# Altium footprint library Footprints.PcbLib: 27 footprints (part 1 of 2)
Each footprint in its own frame and in the unit in brackets; x right, y up, seen from the top. Pads: shape width x height; smd on the part's side, far side on the other; paste and mask are expansions set on the pad; w line width, h text height; cw(c..) or ccw(c..) is an arc to the next point about the centre after c.
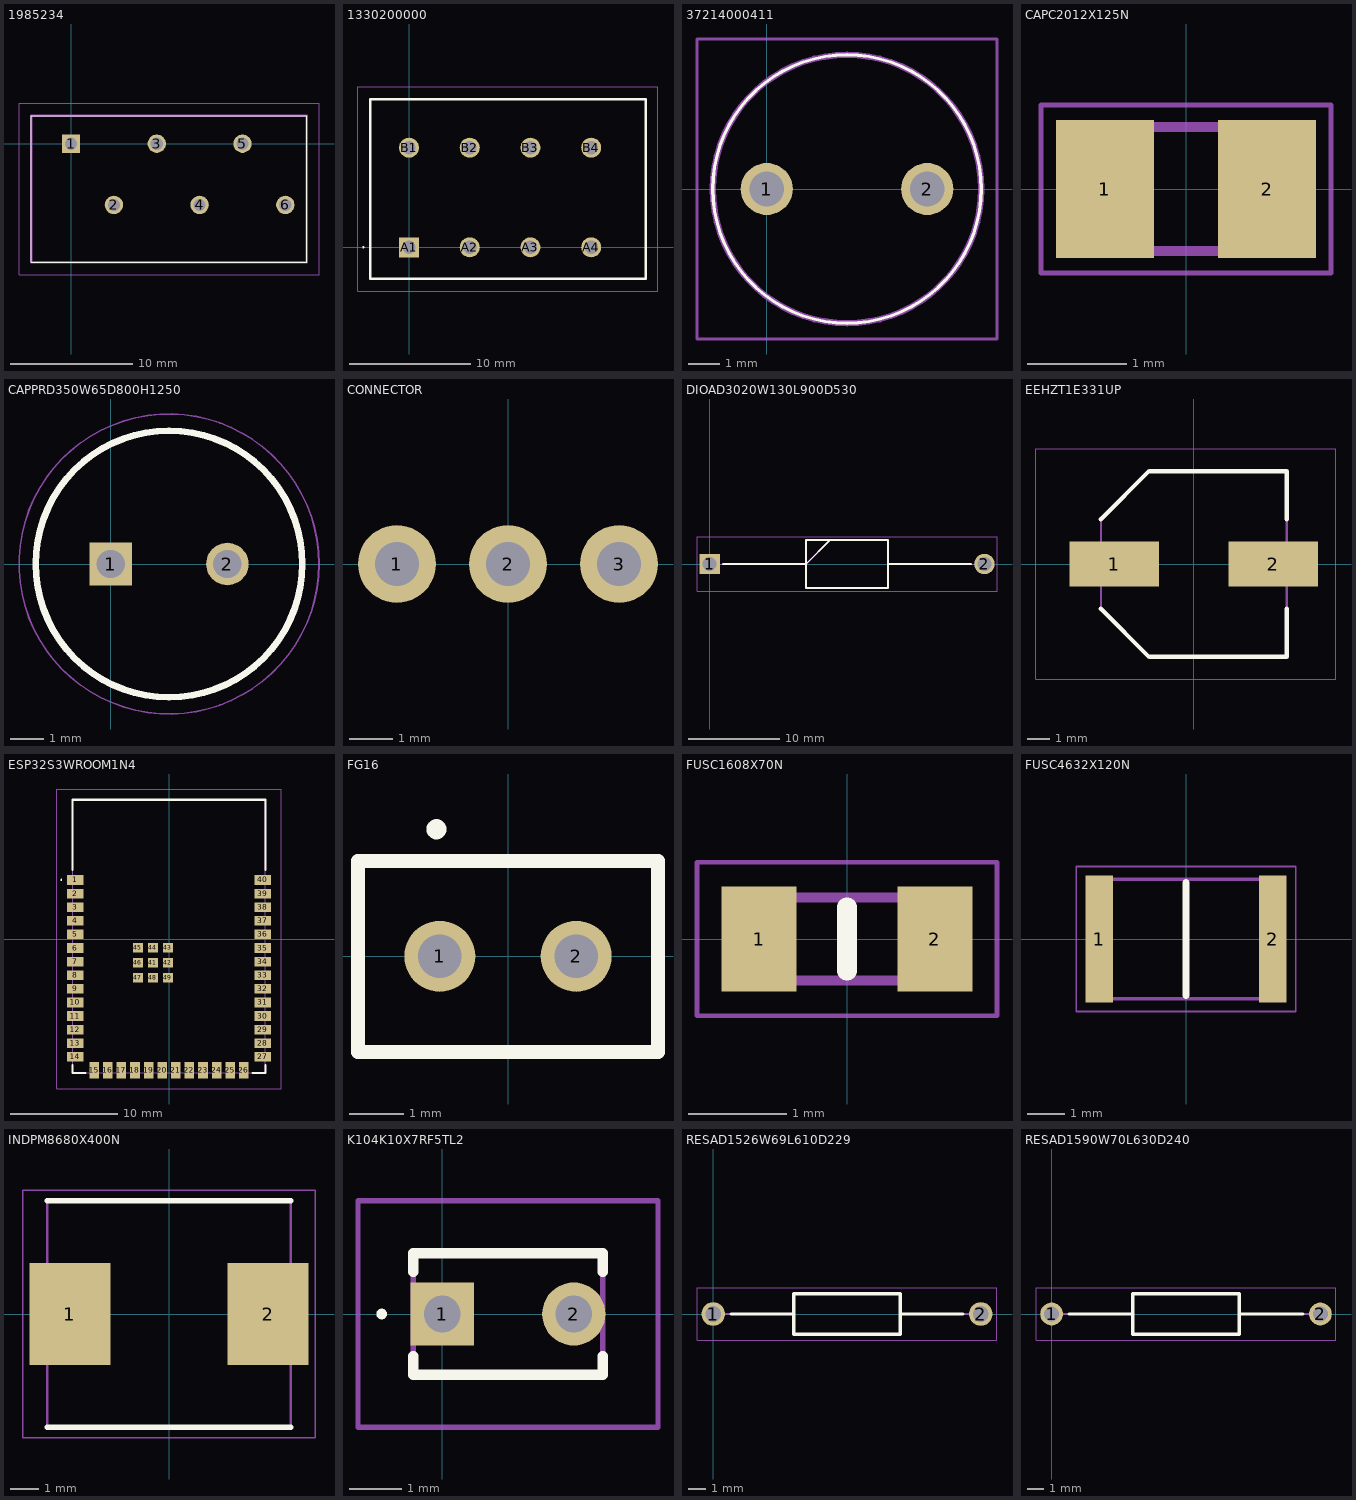
[diagram p0: the footprints below, top view; thin cyan lines are the x and y axes]

## 1985234 [mm]
pads (6):
  rect 1.5x1.5 hole 1: 1(0,0)
  round 1.5 hole 1: 2(3.5,-5) 3(7,0) 4(10.5,-5) 5(14,0) 6(17.5,-5)
Top Overlay:
  lines w0.1: -3.25,-9.7 19.25,-9.7 19.25,2.3 -3.25,2.3 -3.25,-9.7
Mechanical 13:
  lines w0.2: -3.25,-9.7 19.25,-9.7 19.25,2.3 -3.25,2.3 -3.25,-9.7
Mechanical 15:
  lines w0.1: -4.25,-10.7 20.25,-10.7 20.25,3.3 -4.25,3.3 -4.25,-10.7
3D body "1985234.stp": height 13.1, standoff -3.5, extent -3.25,-9.7 19.25,2.3

## 1330200000 [mm]
pads (8):
  rect 1.65x1.65 hole 1.1: A1(0,0)
  round 1.65 hole 1.1: A2(5,0) A3(10,0) A4(15,0) B1(0,8.2) B2(5,8.2) B3(10,8.2) B4(15,8.2)
Top Overlay:
  lines w0.1: -3.8,0 cw(c-3.75,0) -3.7,0 cw(c-3.75,0) -3.8,0
  lines w0.2: -3.2,-2.6 -3.2,12.2 19.5,12.2 19.5,-2.6 -3.2,-2.6
Mechanical 15:
  lines w0.1: -3.2,-2.6 -3.2,12.2 19.5,12.2 19.5,-2.6 -3.2,-2.6
Mechanical 20:
  lines w0.1: -4.2,-3.6 -4.2,13.2 20.5,13.2 20.5,-3.6 -4.2,-3.6

## 37214000411 [mm]
pads (2):
  round 1.65 hole 1.1: 1(0,0) 2(5.08,0)
Top Overlay:
  lines w0.1: -1.71,0 ccw(c2.54,0) 6.79,0 ccw(c2.54,0) -1.71,0
Mechanical 13:
  lines w0.2: -1.71,0 ccw(c2.54,0) 6.79,0 ccw(c2.54,0) -1.71,0
Mechanical 15:
  lines w0.1: -2.21,-4.75 7.29,-4.75 7.29,4.75 -2.21,4.75 -2.21,-4.75
3D body "37214000411.stp": height 8.1, standoff -5, extent -1.71,-4.238 6.79,4.238

## CAPC2012X125N [mm]
pads (2):
  rect 0.99x1.39 smd: 1(-0.82,0) 2(0.82,0)
Mechanical 15:
  lines w0.1: -1,-0.625 -1,0.625 1,0.625 1,-0.625 -1,-0.625
Mechanical 20:
  lines w0.05: -1.465,-0.85 -1.465,0.85 1.465,0.85 1.465,-0.85 -1.465,-0.85

## CAPPRD350W65D800H1250 [mm]
pads (2):
  rect 1.275x1.275 / inner round 1.275 / far side rect 1.275x1.275 hole 0.85: 1(0,0)
  round 1.275 hole 0.85: 2(3.5,0)
Top Overlay:
  circle w0.2: c1.75,0 r4
Mechanical 15:
  circle w0.1: c1.75,0 r4
Mechanical 20:
  circle w0.05: c1.75,0 r4.5

## CONNECTOR [mm]
pads (3):
  round 1.78 hole 1 square: 1(-2.54,0)
  round 1.78 hole 1: 2(0,0) 3(2.54,0)

## DIOAD3020W130L900D530 [mm]
pads (2):
  rect 2.25x2.25 hole 1.5: 1(0,0)
  round 2.25 hole 1.5: 2(30.2,0)
Top Overlay:
  lines w0.2: 1.475,0 10.6,0 13.25,2.65 ; 19.6,0 28.725,0 ; 10.6,-2.65 10.6,2.65 19.6,2.65 19.6,-2.65 10.6,-2.65
Mechanical 13:
  lines w0.1: 0,0 10.6,0 13.25,2.65 ; 19.6,0 30.2,0 ; 10.6,-2.65 10.6,2.65 19.6,2.65 19.6,-2.65 10.6,-2.65
Mechanical 15:
  lines w0.05: -1.375,-3 -1.375,3 31.575,3 31.575,-3 -1.375,-3
3D body "1N5408.stp": height 5.6, standoff -5.6, extent -0.65,-2.788 30.85,2.788

## EEHZT1E331UP [mm]
pads (2):
  rect 4x2 smd: 1(-3.55,0) 2(3.55,0)
Top Overlay:
  lines w0.2: -4.15,-2 -2,-4.15 4.15,-4.15 4.15,-2 ; -4.15,2 -2,4.15 4.15,4.15 4.15,2
Mechanical 13:
  lines w0.1: -4.15,2 -2,4.15 ; -4.15,2 -4.15,-2 -2,-4.15 4.15,-4.15 4.15,4.15 -2,4.15 ; -4.15,2 -2,4.15
Mechanical 15:
  lines w0.05: -7.05,-5.15 6.35,-5.15 6.35,5.15 -7.05,5.15 -7.05,-5.15
3D body "EEE-TP1C221AP.stp": height 10.2, standoff 0, extent -4.79,-4.15 4.91,4.15

## ESP32S3WROOM1N4 [mm]
pads (49):
  rect 1.5x0.9 smd: 1(-8.75,5.51) 2(-8.75,4.24) 3(-8.75,2.97) 4(-8.75,1.7) 5(-8.75,0.43) 6(-8.75,-0.84) 7(-8.75,-2.11) 8(-8.75,-3.38) 9(-8.75,-4.65) 10(-8.75,-5.92) 11(-8.75,-7.19) 12(-8.75,-8.46) 13(-8.75,-9.73) 14(-8.75,-11) 27(8.75,-11) 28(8.75,-9.73) 29(8.75,-8.46) 30(8.75,-7.19) 31(8.75,-5.92) 32(8.75,-4.65) 33(8.75,-3.38) 34(8.75,-2.11) 35(8.75,-0.84) 36(8.75,0.43) 37(8.75,1.7) 38(8.75,2.97) 39(8.75,4.24) 40(8.75,5.51)
  rect 0.9x1.5 smd: 15(-6.985,-12.25) 16(-5.715,-12.25) 17(-4.445,-12.25) 18(-3.175,-12.25) 19(-1.905,-12.25) 20(-0.635,-12.25) 21(0.635,-12.25) 22(1.905,-12.25) 23(3.175,-12.25) 24(4.445,-12.25) 25(5.715,-12.25) 26(6.985,-12.25)
  rect 0.9x0.9 smd: 41(-1.5,-2.21) 42(-0.1,-2.21) 43(-0.1,-0.81) 44(-1.5,-0.81) 45(-2.9,-0.81) 46(-2.9,-2.21) 47(-2.9,-3.61) 48(-1.5,-3.61) 49(-0.1,-3.61)
Top Overlay:
  lines w0.1: -10.1,5.51 ccw(c-10.05,5.51) -10,5.51 ccw(c-10.05,5.51) -10.1,5.51
  lines w0.2: -9,-11.75 -9,-12.5 -7.8,-12.5 ; -9,6.45 -9,13 9,13 9,6.45 ; 7.8,-12.5 9,-12.5 9,-11.75
Mechanical 15:
  lines w0.1: -9,-12.5 -9,13 9,13 9,-12.5 -9,-12.5
Mechanical 20:
  lines w0.1: -10.5,-14 -10.5,14 10.5,14 10.5,-14 -10.5,-14

## FG16 [mm]
pads (2):
  round 1.3 hole 0.8: 1(-1.25,0) 2(1.25,0)
Top Overlay:
  circle w0.254: c-1.312,2.33 r0.057
  lines w0.254: -2.75,-1.75 -2.75,1.75 ; -2.75,-1.75 2.75,-1.75 ; -2.75,-1.75 2.75,-1.75 ; -2.75,-1.75 -2.75,1.75 ; -2.75,1.75 2.75,1.75 ; -2.75,1.75 2.75,1.75 ; 2.75,-1.75 2.75,1.75 ; 2.75,-1.75 2.75,1.75
Mechanical 13:
  lines w0.254: -2.75,-1.75 -2.75,1.75 2.75,1.75 2.75,-1.75 -2.75,-1.75
3D body "FG16X7R1E106KRT06.stp": height 6.44, standoff -6.56, extent -3.159,-1.75 3.159,1.75

## FUSC1608X70N [mm]
pads (2):
  rect 0.77x1.07 smd: 1(-0.9,0) 2(0.9,0)
Top Overlay:
  lines w0.2: 0,-0.325 0,0.325
Mechanical 15:
  lines w0.1: -0.825,-0.425 0.825,-0.425 0.825,0.425 -0.825,0.425 -0.825,-0.425
Mechanical 20:
  lines w0.05: -1.535,-0.785 1.535,-0.785 1.535,0.785 -1.535,0.785 -1.535,-0.785

## FUSC4632X120N [mm]
pads (2):
  rect 0.75x3.43 smd: 1(-2.35,0) 2(2.35,0)
Top Overlay:
  lines w0.2: 0,-1.52 0,1.52
Mechanical 15:
  lines w0.1: -2.275,-1.62 2.275,-1.62 2.275,1.62 -2.275,1.62 -2.275,-1.62
Mechanical 20:
  lines w0.05: -2.975,-1.965 2.975,-1.965 2.975,1.965 -2.975,1.965 -2.975,-1.965

## INDPM8680X400N [mm]
pads (2):
  rect 2.85x3.6 smd: 1(-3.5,0) 2(3.5,0)
Top Overlay:
  lines w0.2: -4.3,-4 4.3,-4 ; -4.3,4 4.3,4
Mechanical 15:
  lines w0.1: -4.3,-4 -4.3,4 4.3,4 4.3,-4 -4.3,-4
Mechanical 20:
  lines w0.05: -5.175,-4.375 -5.175,4.375 5.175,4.375 5.175,-4.375 -5.175,-4.375

## K104K10X7RF5TL2 [mm]
pads (2):
  rect 1.2x1.2 hole 0.7: 1(0,0)
  round 1.2 hole 0.7: 2(2.5,0)
Top Overlay:
  lines w0.1: -1.2,0 ccw(c-1.15,0) -1.1,0 ccw(c-1.15,0) -1.2,0
  lines w0.2: -0.55,-0.8 -0.55,-1.15 3.05,-1.15 3.05,-0.8 ; -0.55,0.8 -0.55,1.15 3.05,1.15 3.05,0.8
Mechanical 13:
  lines w0.1: -0.55,-1.15 3.05,-1.15 3.05,1.15 -0.55,1.15 -0.55,-1.15
Mechanical 15:
  lines w0.1: -1.6,-2.15 4.1,-2.15 4.1,2.15 -1.6,2.15 -1.6,-2.15
3D body "K104K10X7RF5TL2.stp": height 5.3, standoff -5, extent -0.55,-1.15 3.05,1.15

## RESAD1526W69L610D229 [mm]
pads (2):
  round 1.35 hole 0.9: 1(0,0) 2(15.3,0)
Top Overlay:
  lines w0.2: 1.025,0 4.6,0 ; 10.7,0 14.275,0 ; 4.6,-1.145 4.6,1.145 10.7,1.145 10.7,-1.145 4.6,-1.145
Mechanical 13:
  lines w0.1: 0,0 4.6,0 ; 10.7,0 15.3,0 ; 4.6,-1.145 4.6,1.145 10.7,1.145 10.7,-1.145 4.6,-1.145
Mechanical 15:
  lines w0.05: -0.925,-1.495 -0.925,1.495 16.225,1.495 16.225,-1.495 -0.925,-1.495

## RESAD1590W70L630D240 [mm]
pads (2):
  round 1.35 hole 0.9: 1(0,0) 2(15.9,0)
Top Overlay:
  lines w0.2: 1.025,0 4.8,0 ; 11.1,0 14.875,0 ; 4.8,-1.2 4.8,1.2 11.1,1.2 11.1,-1.2 4.8,-1.2
Mechanical 13:
  lines w0.1: 0,0 4.8,0 ; 11.1,0 15.9,0 ; 4.8,-1.2 4.8,1.2 11.1,1.2 11.1,-1.2 4.8,-1.2
Mechanical 15:
  lines w0.05: -0.925,-1.55 -0.925,1.55 16.825,1.55 16.825,-1.55 -0.925,-1.55
3D body "MFP-25BRD52-100R.stp": height 2.6, standoff -2.6, extent -0.35,-1.291 16.25,1.291